# Altium schematic symbol library LM324AD_SOIC14.SchLib: 1 symbol
Pins are listed as number, name and electrical type; pins without a type are passive.

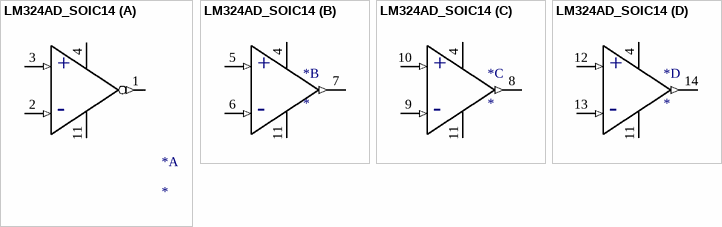
[diagram p0: symbol LM324AD_SOIC14]

## LM324AD_SOIC14
designator *
footprint D14-M
part A pins: 1 OUT_1 (out), 2 -INP_1 (in), 3 +INP_1 (in), 4 +VCC (power), 11 GND (power)
part B pins: 4 (power), 5 +INP_2 (in), 6 -INP_2 (in), 7 OUT_2 (out), 11 GND (power)
part C pins: 4 (power), 8 OUT_3 (out), 9 -INP_3 (in), 10 +INP_3 (in), 11 GND (power)
part D pins: 4 (power), 11 GND (power), 12 +INP_4 (in), 13 -INP_4 (in), 14 OUT_4 (out)
part A text: +; -
part B text: +; -
part C text: +; -
part D text: +; -